# EAGLE library part RFM70 (library chiptron_cz)
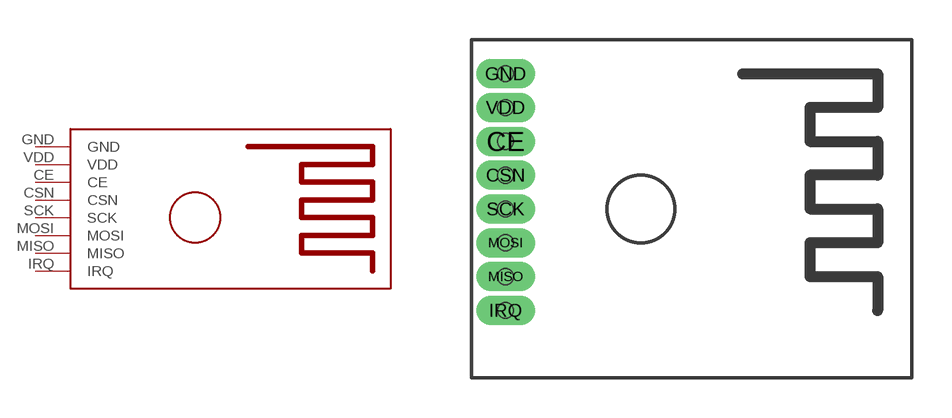
[diagram p0: symbol with the pads of RFM70; footprint RFM70]

Designator prefix -

## RFM70  [RFM70]
CE  CE
CSN  CSN
GND  GND
IRQ  IRQ
MISO  MISO
MOSI  MOSI
SCK  SCK
VDD  VDD

## Footprint RFM70 (pad centres in mm)
drill 0.6 pad 1.016 long: CE -5.08,2.54; CSN -5.08,1.27; GND -5.08,5.08; IRQ -5.08,-3.81; MISO -5.08,-2.54; MOSI -5.08,-1.27; SCK -5.08,0; VDD -5.08,3.81
hole 0.6 at -5.08,5.08
hole 0.6 at -5.08,3.81
hole 0.6 at -5.08,2.54
hole 0.6 at -5.08,1.27
hole 0.6 at -5.08,0
hole 0.6 at -5.08,-1.27
hole 0.6 at -5.08,-2.54
hole 0.6 at -5.08,-3.81